# EAGLE library part MAX6675 (library #PaJa_31)
Cold Junction compensated K-Thermocouple to digital converter (0°C to + 1024°C)
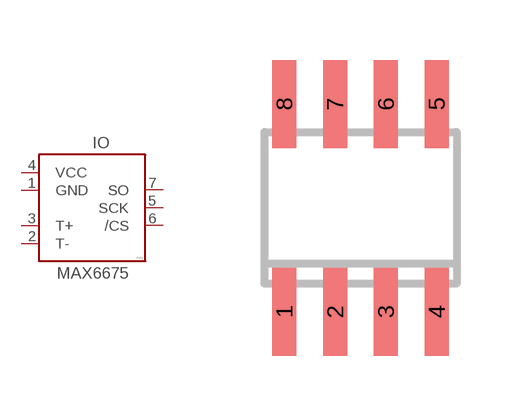
[diagram p65: symbol with the pads of SO08; footprint SO08]

Designator prefix IO

## MAX6675  [SO08]
1  GND  pwr
2  T-  pas
3  T+  pas
4  VCC  pwr
5  SCK
6  /CS
7  SO

## Footprint SO08 (pad centres in mm)
smd 0.6 x 2.2: 1 -1.905,-2.6; 2 -0.635,-2.6; 3 0.635,-2.6; 4 1.905,-2.6; 5 1.905,2.6; 6 0.635,2.6; 7 -0.635,2.6; 8 -1.905,2.6